# EAGLE library part SP3485EN-L (library SP3485EN-L)
Transceiver RS-485 3.3V 10Mbps SOIC8 SP3485EN-L, Line Transceiver, RS-485, RS-422 10Mbit/s Differential, 3.3 V, 8-Pin SOIC Source: Datasheet <http://www.exar.com/common/content/document.ashx?id=639&type=datasheet&part=sp3485/.pdf>
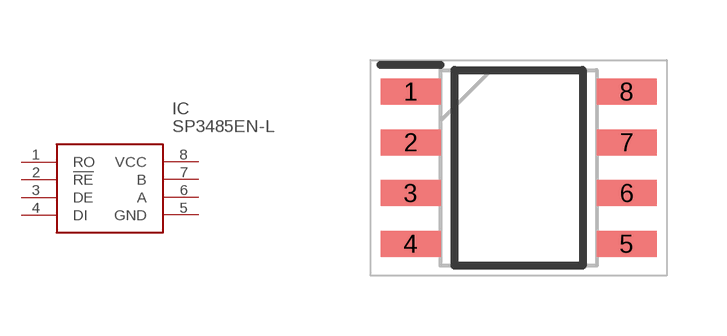
[diagram p0: symbol with the pads of SOIC127P600X175-8N; footprint SOIC127P600X175-8N]

Designator prefix IC

## SP3485EN-L (Arrow_Part_Number: SP3485EN-L; Arrow_Price-Stock: https://www.arrow.com/en/products/sp3485en-l/exar; Description: Transceiver RS-485 3.3V 10Mbps SOIC8 SP3485EN-L, Line Transceiver, RS-485, RS-422 10Mbit/s Differential, 3.3 V, 8-Pin SOIC; Height: 1.75mm; Manufacturer_Name: EXAR; Manufacturer_Part_Number: SP3485EN-L; Mouser_Part_Number: 701-SP3485EN-L; Mouser_Price-Stock: https://www.mouser.com/Search/Refine.aspx?Keyword=701-SP3485EN-L)  [SOIC127P600X175-8N]
1  RO
2  !RE
3  DE
4  DI
5  GND  pwr
6  A
7  B
8  VCC  pwr

## Footprint SOIC127P600X175-8N (pad centres in mm)
8 Pin SOICN
smd 1.5 x 0.65: 1 -2.7,1.905; 2 -2.7,0.635; 3 -2.7,-0.635; 4 -2.7,-1.905; 5 2.7,-1.905; 6 2.7,-0.635; 7 2.7,0.635; 8 2.7,1.905